# Altium footprint library Rohm Semiconductors.PcbLib: 3 footprints
Each footprint in its own frame and in the unit in brackets; x right, y up, seen from the top. Pads: shape width x height; smd on the part's side, far side on the other; paste and mask are expansions set on the pad; w line width, h text height; cw(c..) or ccw(c..) is an arc to the next point about the centre after c.
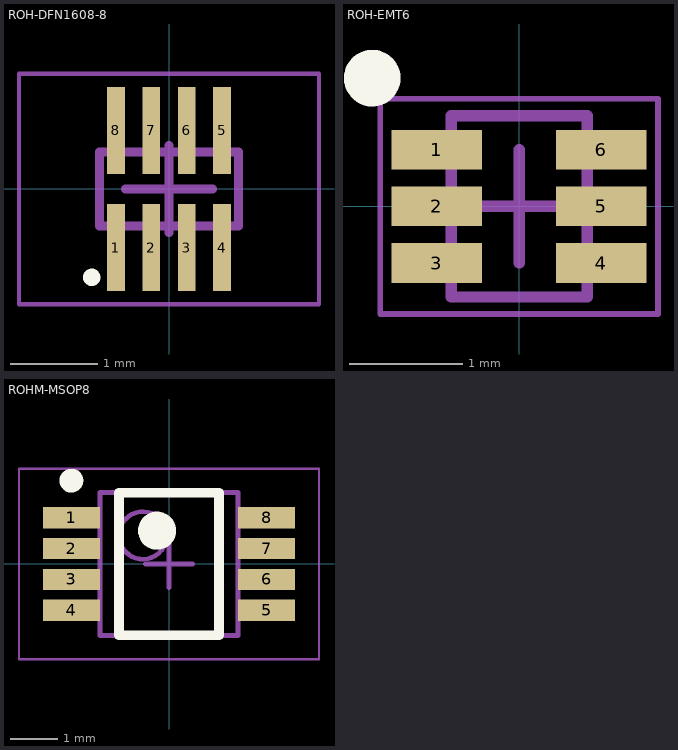
[diagram p0: the footprints below, top view; thin cyan lines are the x and y axes]

## ROH-DFN1608-8 [mm] "QFN, 8-Leads, Body 1.58x0.80mm, Pitch 0.40mm, IPC Low Density"
height 0.33
pads (8):
  rect 0.203x1 smd: 1(-0.61,-0.675) 2(-0.203,-0.675) 3(0.203,-0.675) 4(0.61,-0.675) 5(0.61,0.675) 6(0.203,0.675) 7(-0.203,0.675) 8(-0.61,0.675)
Top Overlay:
  circle w0.1: c-0.889,-1.016 r0.05
Mechanical 13:
  lines w0.1: -0.8,-0.425 0.8,-0.425 0.8,0.425 -0.8,0.425 -0.8,-0.425
Mechanical 15:
  lines w0.05: -1.725,-1.325 1.725,-1.325 1.725,1.325 -1.725,1.325 -1.725,-1.325
  lines w0.1: -0.5,0 0.5,0 ; 0,-0.5 0,0.5
3D body "ROH-DFN1608-8.step": height 0.33, standoff 0, extent -0.8,-0.426 0.8,0.426

## ROH-EMT6 [mm] "SOTFL, 6-Leads, Body 1.60x1.60mm, Pitch 0.50mm, IPC Medium Density"
height 0.5
pads (6):
  rect 0.8x0.35 smd: 1(-0.725,0.5) 2(-0.725,0) 3(-0.725,-0.5) 4(0.725,-0.5) 5(0.725,0) 6(0.725,0.5)
Top Overlay:
  circle w0.25: c-1.296,1.131 r0.125
Mechanical 13:
  lines w0.1: -0.6,-0.8 0.6,-0.8 0.6,0.8 -0.6,0.8 -0.6,-0.8
Mechanical 15:
  lines w0.05: -1.225,-0.95 1.225,-0.95 1.225,0.95 -1.225,0.95 -1.225,-0.95
  lines w0.1: -0.5,0 0.5,0 ; 0,-0.5 0,0.5
3D body "ROH-EMT6.step": height 0.5, standoff 0, extent -0.8,-0.798 0.8,0.798

## ROHM-MSOP8 [mm] "TSOP, 8-Leads, Body 2.90x2.80mm, Pitch 0.65mm, IPC Low Density"
height 0.9
pads (8):
  rect 1.2x0.45 smd: 1(-2.05,0.975) 2(-2.05,0.325) 3(-2.05,-0.325) 4(-2.05,-0.975) 5(2.05,-0.975) 6(2.05,-0.325) 7(2.05,0.325) 8(2.05,0.975)
Top Overlay:
  circle w0.4: c-0.25,0.7 r0.2
  circle w0.25: c-2.05,1.75 r0.125
  lines w0.2: -1.05,-1.5 1.05,-1.5 1.05,1.5 -1.05,1.5 -1.05,-1.5
Mechanical 13:
  circle w0.1: c-0.55,0.6 r0.5
  lines w0.1: -1.45,-1.5 1.45,-1.5 1.45,1.5 -1.45,1.5 -1.45,-1.5
Mechanical 15:
  lines w0.05: -3.15,-2 3.15,-2 3.15,2 -3.15,2 -3.15,-2
  lines w0.1: -0.5,0 0.5,0 ; 0,-0.5 0,0.5
3D body "ROHM-MSOP8.step": height 0.9, standoff 0, extent -2,-1.5 2,1.5